# Altium schematic symbol library Schlib1.SchLib: 5 symbols
Pins are listed as number, name and electrical type; pins without a type are passive.

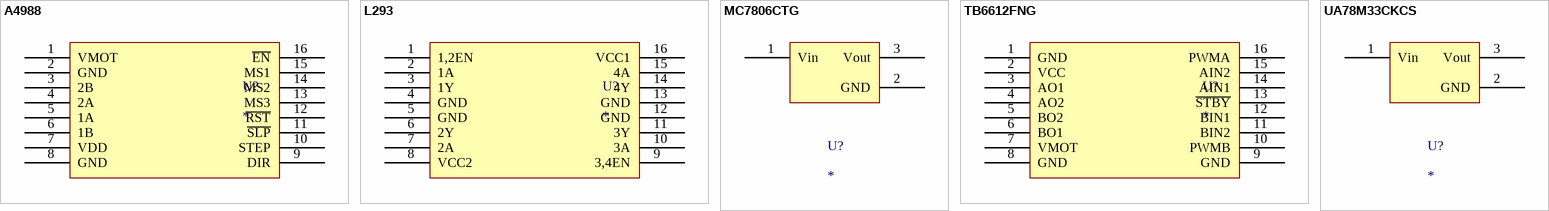
[diagram p0: symbols A4988 to UA78M33CKCS]

## A4988
designator U?
DRIVER STEPPER
pins: 1 VMOT, 2 GND, 3 2B, 4 2A, 5 1A, 6 1B, 7 VDD, 8 GND, 9 DIR, 10 STEP, 11 ~{SLP}, 12 ~{RST}, 13 MS3, 14 MS2, 15 MS1, 16 ~{EN}

## L293
designator U?
DRIVER DC MOTORS
pins: 1 1,2EN, 2 1A, 3 1Y, 4 GND, 5 GND, 6 2Y, 7 2A, 8 VCC2, 9 3,4EN, 10 3A, 11 3Y, 12 GND, 13 GND, 14 4Y, 15 4A, 16 VCC1

## MC7806CTG
designator U?
LDO 6V 1A
pins: 1 Vin, 2 GND, 3 Vout

## TB6612FNG
designator U?
DRIVER DC MOTORS
pins: 1 GND, 2 VCC, 3 AO1, 4 AO2, 5 BO2, 6 BO1, 7 VMOT, 8 GND, 9 GND, 10 PWMB, 11 BIN2, 12 BIN1, 13 ~{STBY}, 14 AIN1, 15 AIN2, 16 PWMA

## UA78M33CKCS
designator U?
LDO 3.3V 500 mA max
pins: 1 Vin, 2 GND, 3 Vout